# Altium schematic symbol library SCH - PASSIVES - INDUCTOR 744284100.SCHLIB: 1 symbol
Pins are listed as number, name and electrical type; pins without a type are passive.

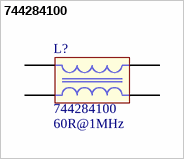
[diagram p0: symbol 744284100]

## 744284100
designator L?  value 60R@1MHz
Inductor, CMC, 60R@1MHz, 2.75A; Manufacturer: Murata Electronics; Category: inductors; Manufacturer Part Number: 744284100; Pins: 4; Supplier 1: Mouser; Supplier Part Number 1: 710-744284100; Current: 2.75A; Mounting Style: SMT
footprint IND_WE-SCC (CM Filter, Würth Elektronik WE-SCC, Body 12.5x12.5 mm)
pins: 1 IN1, 2 IN2, 3 OUT1, 4 OUT2